# EAGLE library part FSUSB20MUX (library @Club_mux-usb)
Multiplexeur USB de chez Fairchild Semiconductor (Distributeur : Farnell)
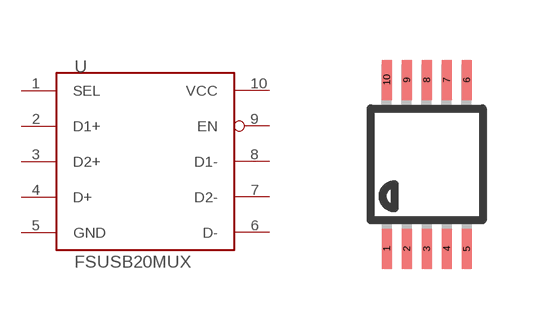
[diagram p0: symbol with the pads of MSOP10; footprint MSOP10]

Designator prefix -

## FSUSB20MUX  [MSOP10]
1  SEL  in
2  D1+  in
3  D2+  in
4  D+  out
5  GND  pwr
6  D-  out
7  D2-  in
8  D1-  in
9  EN  in
10  VCC  pwr

## Footprint MSOP10 (pad centres in mm)
10-Lead Mini Small Outline Package [MSOP] (RM-10) Source: http://www.analog.com/UploadedFiles/Data_Sheets/35641221898805SSM2167_b.pdf COMPLIANT TO JEDEC STANDARDS MO-187BA
smd 0.25 x 1: 1 -1,-2.113; 2 -0.5,-2.113; 3 0,-2.113; 4 0.5,-2.113; 5 1,-2.113; 6 1,2.113; 7 0.5,2.113; 8 0,2.113; 9 -0.5,2.113; 10 -1,2.113